# EAGLE library part DIMMER_MODULEV0.1 (library DIMMER_ModuleV_1.0)
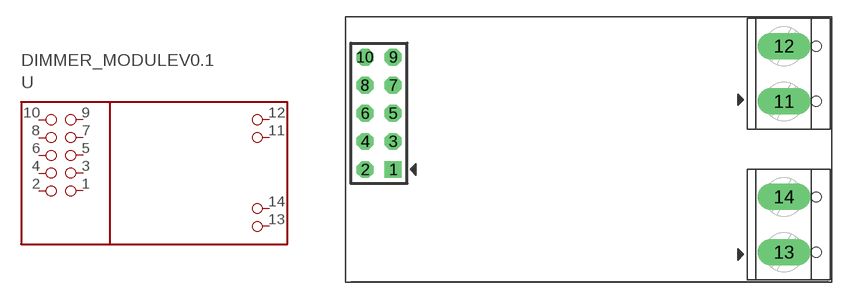
[diagram p0: symbol with the pads of DIMMER_OUTLINE; footprint DIMMER_OUTLINE]

Designator prefix -

## DIMMER_MODULEV0.11  [DIMMER_OUTLINE]
1  1  pas
2  2  pas
3  3  pas
4  4  pas
5  5  pas
6  6  pas
7  7  pas
8  8  pas
9  9  pas
10  10  pas
11  11  pas
12  12  pas
13  13  pas
14  14  pas

## Footprint DIMMER_OUTLINE (pad centres in mm)
drill 1.016 square: 1 6.318,11.676
drill 1.016 octagon: 2 3.778,11.676; 3 6.318,14.216; 4 3.778,14.216; 5 6.318,16.756; 6 3.778,16.756; 7 6.318,19.296; 8 3.778,19.296; 9 6.318,21.836; 10 3.778,21.836
drill 1.4 pad 2.38 long: 11 41.666,17.828; 12 41.666,22.828; 13 41.666,4.196; 14 41.666,9.196